# EAGLE library part AS3956 (library Parts)
NFC Dynamic Tag IC
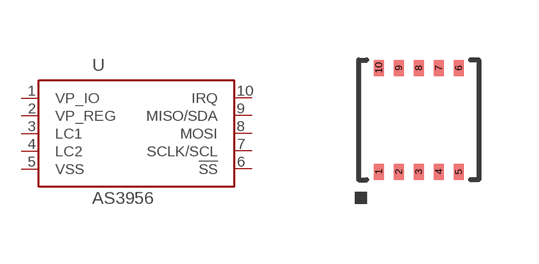
[diagram p29: symbol with the pads of AS3956; footprint AS3956]

Designator prefix U

## AS395656S4  [AS3956]
1  VP_IO  pas
2  VP_REG
3  LC1
4  LC2
5  VSS  pas
6  !SS
7  SCLK/SCL
8  MOSI
9  MISO/SDA
10  IRQ

## AS395656I4  [AS3956]
Pads as for AS3956

## Footprint AS3956 (pad centres in mm)
NFC Dynamic Tag IC
smd 0.25 x 0.4: 1 -1,-1.3; 2 -0.5,-1.3; 3 0,-1.3; 4 0.5,-1.3; 5 1,-1.3; 6 1,1.3; 7 0.5,1.3; 8 0,1.3; 9 -0.5,1.3; 10 -1,1.3